# EAGLE library part RGB_LED (library harrison)
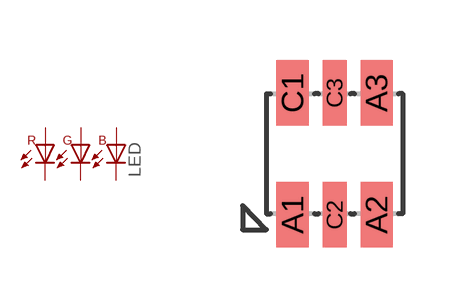
[diagram p54: symbol with the pads of PLCC-6-LED; footprint PLCC-6-LED]

Designator prefix LED

## RGB_LED_OSRAM_3MM  [PLCC-6-LED]
A1  A_R  pas
A2  A_G  pas
A3  A_B  pas
C1  C_R  pas
C2  C_G  pas
C3  C_B  pas

## Footprint PLCC-6-LED (pad centres in mm)
smd 0.8 x 1.65: A1 -1.05,-1.525; A2 1.05,-1.525; A3 1.05,1.525; C1 -1.05,1.525
smd 0.6 x 1.65: C2 0,-1.525; C3 0,1.525